# EAGLE library part LM2725 (library wolfi)
LM2725/LM2726 High Speed Synchronous MOSFET Drivers http://www.ti.com/product/LM2725
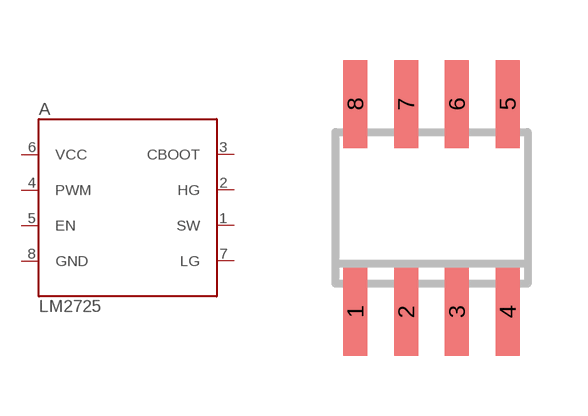
[diagram p33: symbol with the pads of SO08; footprint SO08]

Designator prefix A

## LM2725  [SO08]
1  SW  pas
2  HG  out
3  CBOOT  pas
4  PWM  in
5  EN  in
6  VCC  pwr
7  LG  out
8  GND  pwr

## Footprint SO08 (pad centres in mm)
Small Outline Package 8 NS Package M08A
smd 0.6 x 2.2: 1 -1.905,-2.6; 2 -0.635,-2.6; 3 0.635,-2.6; 4 1.905,-2.6; 5 1.905,2.6; 6 0.635,2.6; 7 -0.635,2.6; 8 -1.905,2.6